# Altium schematic symbol library AT24C256C-SSHL-T.SchLib: 1 symbol
Pins are listed as number, name and electrical type; pins without a type are passive.

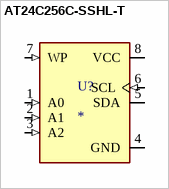
[diagram p0: symbol AT24C256C-SSHL-T]

## AT24C256C-SSHL-T
designator U?
EEPROM Memory IC 256Kb (32K x 8) IÂ²C 1 MHz 550 ns 8-SOIC; MF: Microchip; MP: AT24C256C-SSHL-T; SnapEDA_Link: https://www.snapeda.com/parts/AT24C256C-SSHL-T/Microchip/view-part/?ref=snap; Package: SO-8 Microchip; Value: *; Check_prices: https://www.snapeda.com/parts/AT24C256C-SSHL-T/Microchip/view-part/?ref=eda
footprint SOIC127P600X175-8N
pins: 1 A0 (in), 2 A1 (in), 3 A2 (in), 4 GND (power), 5 SDA (io), 6 SCL (in), 7 WP (in), 8 VCC (power)